# Altium schematic symbol library LMC6464.SchLib: 1 symbol
Pins are listed as number, name and electrical type; pins without a type are passive.

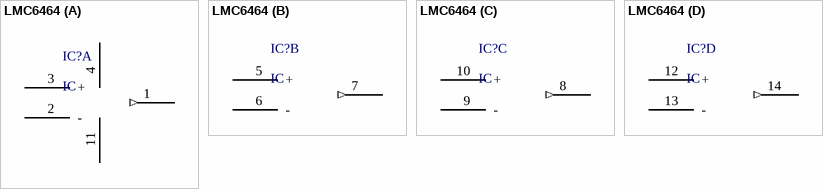
[diagram p0: symbol LMC6464]

## LMC6464
designator IC?, comment IC
footprint SO-14
part A pins: 1 Out1 (out), 2 -, 3 +, 4 VCC (power), 11 GND (power)
part B pins: 5 +, 6 -, 7 Out2 (out)
part C pins: 8 Out3 (out), 9 -, 10 +
part D pins: 12 +, 13 -, 14 Out4 (out)